# EAGLE library part CC3200 (library CC3200)
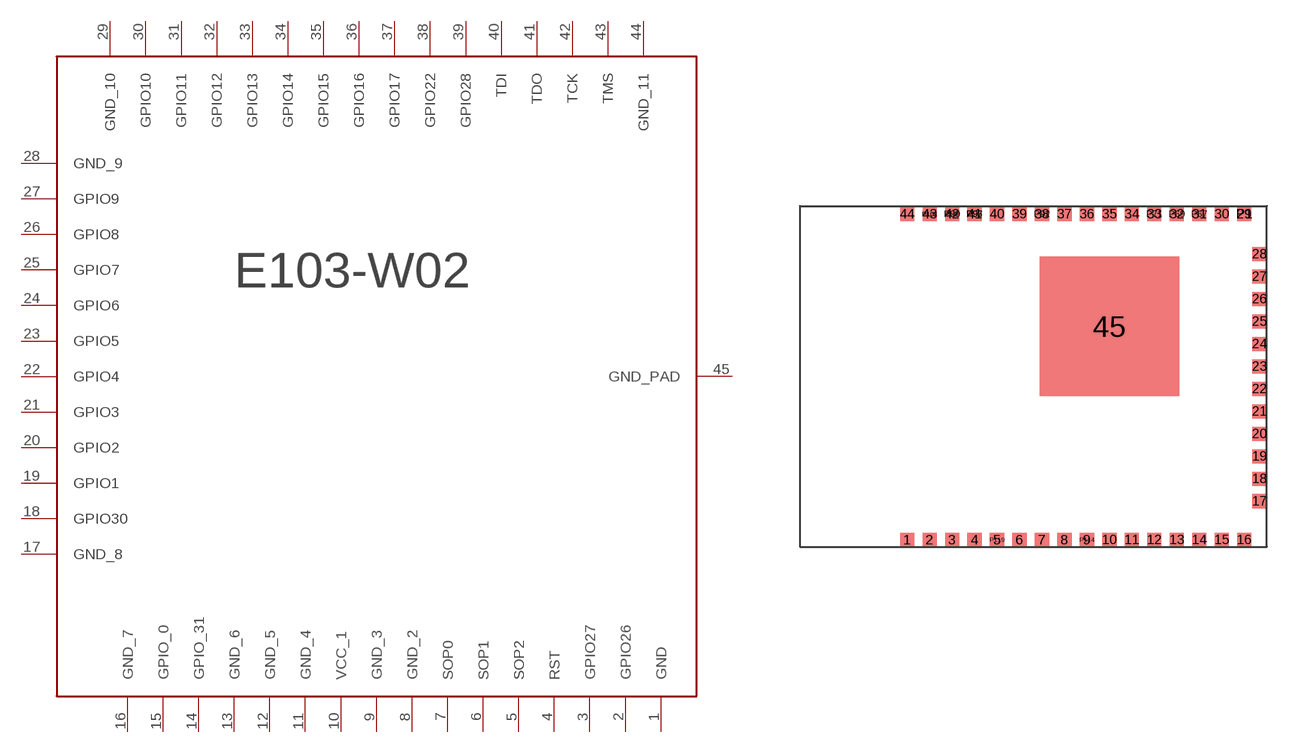
[diagram p0: symbol with the pads of CC3200MOD; footprint CC3200MOD]

Designator prefix -

## CC3200  [CC3200MOD]
1  GND
2  GPIO26
3  GPIO27
4  RST
5  SOP2
6  SOP1
7  SOP0
8  GND_2
9  GND_3
10  VCC_1
11  GND_4
12  GND_5
13  GND_6
14  GPIO_31
15  GPIO_0
16  GND_7
17  GND_8
18  GPIO30
19  GPIO1
20  GPIO2
21  GPIO3
22  GPIO4
23  GPIO5
24  GPIO6
25  GPIO7
26  GPIO8
27  GPIO9
28  GND_9
29  GND_10
30  GPIO10
31  GPIO11
32  GPIO12
33  GPIO13
34  GPIO14
35  GPIO15
36  GPIO16
37  GPIO17
38  GPIO22
39  GPIO28
40  TDI
41  TDO
42  TCK
43  TMS
44  GND_11
45  GND_PAD

## Footprint CC3200MOD (pad centres in mm)
smd 0.8 x 0.8: 1 -9.53,-9.882; 2 -8.26,-9.882; 3 -6.99,-9.882; 4 -5.72,-9.882; 5 -4.45,-9.882; 6 -3.18,-9.882; 7 -1.91,-9.882; 8 -0.64,-9.882; 9 0.63,-9.882; 10 1.9,-9.882; 11 3.17,-9.882; 12 4.44,-9.882; 13 5.71,-9.882; 14 6.98,-9.882; 15 8.25,-9.882; 16 9.52,-9.882; 17 10.384,-7.698; 18 10.384,-6.428; 19 10.384,-5.158; 20 10.384,-3.888; 21 10.384,-2.618; 22 10.384,-1.348; 23 10.384,-0.078; 24 10.384,1.192; 25 10.384,2.462; 26 10.384,3.732; 27 10.384,5.002; 28 10.384,6.272; 29 9.52,8.533; 30 8.25,8.533; 31 6.98,8.533; 32 5.71,8.533; 33 4.44,8.533; 34 3.17,8.533; 35 1.9,8.533; 36 0.63,8.533; 37 -0.64,8.533; 38 -1.91,8.533; 39 -3.18,8.533; 40 -4.45,8.533; 41 -5.72,8.533; 42 -6.99,8.533; 43 -8.26,8.533; 44 -9.53,8.533; P1 9.52,8.533; P67 6.98,8.533; P69 5.71,8.533; P71 4.44,8.533; P92 -1.91,8.533; P96 -5.72,8.533; P97 -5.72,8.533; P99 -6.99,8.533; P100 -6.99,8.533; P102 -8.26,8.533; P103 -8.26,8.533; P114 0.63,-9.882; P119 -4.45,-9.882
smd 7.887 x 7.887: 45 1.9,2.183